# EAGLE library part 691244500010 (library Wurth_Connectors_WR-TBL Rising Cage Clamp)
WR-TBL Serie 2445 - 5.08 mm Vertical Entry Modular w. Rising Cage Clamp KIND PROPERTIES Pitch 5.08 mm MATERIAL PROPERTIES Insulator Material PA66 Insulator Flammability Rating UL94 V-0 Contact Material Copper Alloy Contact Plating Tin over Nickel Terminal Screw Material Steel Terminal Screw Plating Zinc Wire Guard Material Copper Alloy GENERAL INFORMATION Operating Temperature -30 up to +120 °C Compliance RoHS ELECTRICAL PROPERTIES IR UL 16 A IR VDE 24 A Working Voltage [UL] 300 V (AC) Working Voltage [VDE] 450 V (AC) Withstanding Voltage [UL] 1600 V (AC) Withstanding Voltage [VDE] 2500 V (AC) Contact Resistance [UL] 20 mΩ Contact Resistance [VDE] 20 mΩ MECHANICAL PROPERTIES Wire Strip Length 6 Screw M3 CERTIFICATION cULus Approval E150931 VDE Approval 40015450 PACKAGING PROPERTIES Packaging Box <https://www.we-online.com/catalog/media/o60847v209%20Family_TBL_5_08_2445_VERTICAL_CABLE_ENTRY_W_RISING_CLAMP_6912445000XX.jpg.jpg> Details see: https://www.we-online.com/catalog/en/TBL_5_08_2445_VERTICAL_CABLE_ENTRY_W_RISING_CLAMP_6912445000XX/ Updated by Ella Wu 2019-11-26 2019(C) Wurth Elektronik
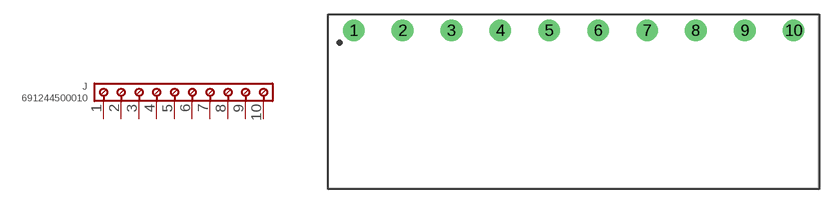
[diagram p91: symbol with the pads of 691244500010; footprint 691244500010]

Designator prefix J

## 691244500010 (IR-UL: 16A; IR-VDE: 24A; PART-NUMBER: 691244500010; PINS: 10; PITCH: 5.08mm; TYPE: Vertical; WIRE: 12 to 30 (AWG) 3.31 to 0.0509 (mm²); WORKING-VOLTAGE-UL: 300V (AC); WORKING-VOLTAGE-VDE: 450V (AC))  [691244500010]
1  1  pas
2  2  pas
3  3  pas
4  4  pas
5  5  pas
6  6  pas
7  7  pas
8  8  pas
9  9  pas
10  10  pas

## Footprint 691244500010 (pad centres in mm)
WR-TBL Serie 2445 - 5.08 mm Vertical Entry Modular w. Rising Cage Clamp Max Height =11.2mm , Pitch 5.08mm , 10 Pins
drill 1.5: 1 -22.86,0; 2 -17.78,0; 3 -12.7,0; 4 -7.62,0; 5 -2.54,0; 6 2.54,0; 7 7.62,0; 8 12.7,0; 9 17.78,0; 10 22.86,0